# Altium footprint library OSCCC320X250X75.PcbLib: 1 footprints
Each footprint in its own frame and in the unit in brackets; x right, y up, seen from the top. Pads: shape width x height; smd on the part's side, far side on the other; paste and mask are expansions set on the pad; w line width, h text height; cw(c..) or ccw(c..) is an arc to the next point about the centre after c.
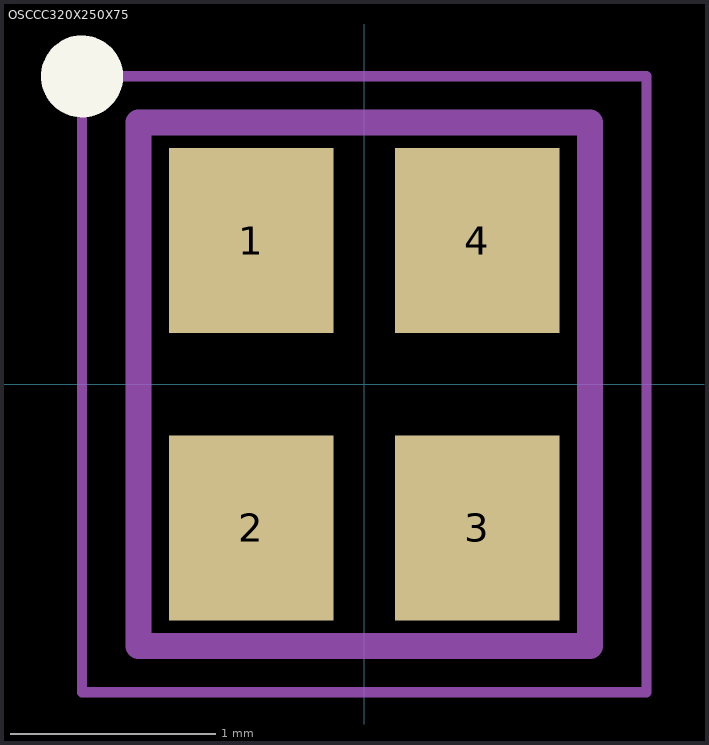
[diagram p0: the footprint, top view; thin cyan lines are the x and y axes]

## OSCCC320X250X75 [mm]
pads (4):
  rect 0.8x0.9 smd: 1(-0.55,0.7) 2(-0.55,-0.7) 3(0.55,-0.7) 4(0.55,0.7)
Top Overlay:
  circle w0.2: c-1.375,1.5 r0.1
Mechanical 4:
  lines w0.127: -1.1,-1.275 1.1,-1.275 1.1,1.275 -1.1,1.275 -1.1,-1.275
Mechanical 16:
  lines w0.05: -1.375,-1.5 1.375,-1.5 1.375,1.5 -1.375,1.5 -1.375,-1.5